# Altium schematic symbol library WR-TBL_Spring Clamp.SchLib: 367 symbols (part 3 of 6)
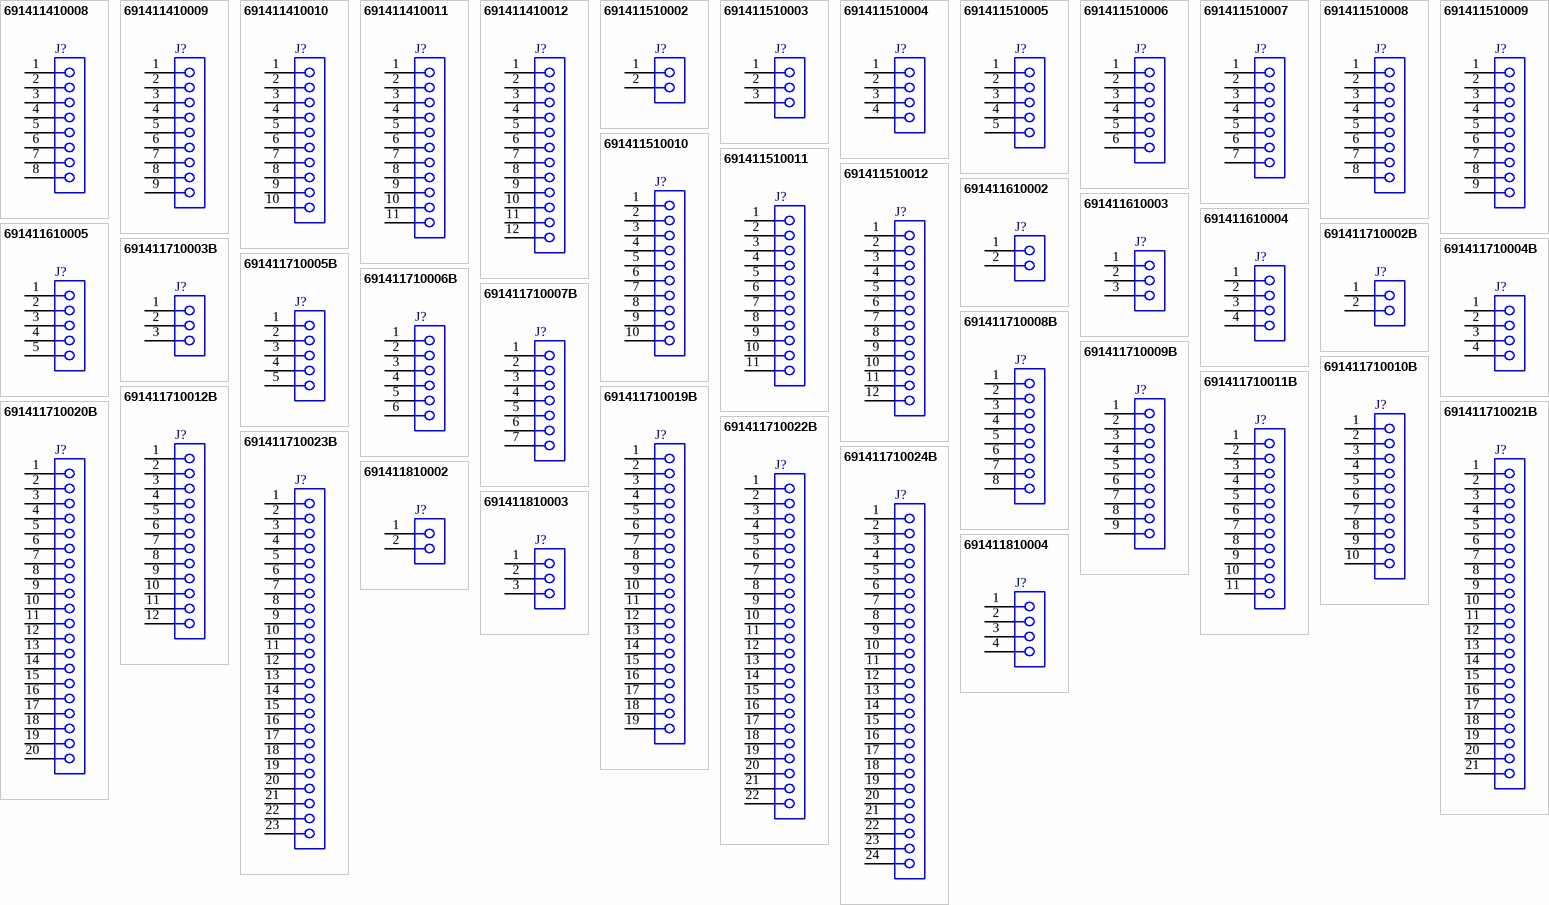
[diagram p11: symbols 691411410008 to 691411810004]

## 691411410010
designator J?  (value not drawn)
WR-TBL Series 4114 Horizontal Cable Entry, THT, pitch 7.62mm, 10p; Manufacturer: Wurth Elektronik; Modularity: No; Rated Current: 10A; Wire Section: 16 to 30 (AWG) 0.5 to 1.5 (mm^2); Working Voltage: 300V (AC); Manufacturer Part Number: 691411410010; Product Series: WR-TBL; ComponentLink1Description: Website Link; ComponentLink1URL: https://www.we-online.com; ComponentLink2Description: Datasheet Link; ComponentLink2URL: https://www.we-online.com/components/products/datasheet/691411410010; Mount: Through Hole; Operating Temperature Min: -30degC; Operating Temperature Max: 120degC; Packaging: Box; Application: Screwless; Number of Pins: 10; Number of Rows: 1; Orientation: Horizontal; Lead Pitch: 7.62mm
footprint 691411410010
pins: 1, 2, 3, 4, 5, 6, 7, 8, 9, 10

## 691411410011
designator J?  (value not drawn)
WR-TBL Series 4114 Horizontal Cable Entry, THT, pitch 7.62mm, 11p; Manufacturer: Wurth Elektronik; Modularity: No; Rated Current: 10A; Wire Section: 16 to 30 (AWG) 0.5 to 1.5 (mm^2); Working Voltage: 300V (AC); Manufacturer Part Number: 691411410011; Product Series: WR-TBL; ComponentLink1Description: Website Link; ComponentLink1URL: https://www.we-online.com; ComponentLink2Description: Datasheet Link; ComponentLink2URL: https://www.we-online.com/components/products/datasheet/691411410011; Mount: Through Hole; Operating Temperature Min: -30degC; Operating Temperature Max: 120degC; Packaging: Box; Application: Screwless; Number of Pins: 11; Number of Rows: 1; Orientation: Horizontal; Lead Pitch: 7.62mm
footprint 691411410011
pins: 1, 2, 3, 4, 5, 6, 7, 8, 9, 10, 11

## 691411410012
designator J?  (value not drawn)
WR-TBL Series 4114 Horizontal Cable Entry, THT, pitch 7.62mm, 12p; Manufacturer: Wurth Elektronik; Modularity: No; Rated Current: 10A; Wire Section: 16 to 30 (AWG) 0.5 to 1.5 (mm^2); Working Voltage: 300V (AC); Manufacturer Part Number: 691411410012; Product Series: WR-TBL; ComponentLink1Description: Website Link; ComponentLink1URL: https://www.we-online.com; ComponentLink2Description: Datasheet Link; ComponentLink2URL: https://www.we-online.com/components/products/datasheet/691411410012; Mount: Through Hole; Operating Temperature Min: -30degC; Operating Temperature Max: 120degC; Packaging: Box; Application: Screwless; Number of Pins: 12; Number of Rows: 1; Orientation: Horizontal; Lead Pitch: 7.62mm
footprint 691411410012
pins: 1, 2, 3, 4, 5, 6, 7, 8, 9, 10, 11, 12

## 691411510002
designator J?  (value not drawn)
WR-TBL Series 4115 Horizontal Entry, THT, pitch 5.08mm, 02p; Manufacturer: Wurth Elektronik; Modularity: No; Rated Current: 10A; Wire Section: 16 to 30 (AWG) 0.5 to 1.5 (mm^2); Working Voltage: 300V (AC); Manufacturer Part Number: 691411510002; Product Series: WR-TBL; ComponentLink1Description: Website Link; ComponentLink1URL: https://www.we-online.com; ComponentLink2Description: Datasheet Link; ComponentLink2URL: https://www.we-online.com/components/products/datasheet/691411510002; Mount: Through Hole; Operating Temperature Min: -30degC; Operating Temperature Max: 120degC; Packaging: Box; Application: Screwless; Number of Pins: 2; Number of Rows: 1; Orientation: Horizontal; Lead Pitch: 5.08mm
footprint 691411510002
pins: 1, 2

## 691411510003
designator J?  (value not drawn)
WR-TBL Series 4115 Horizontal Entry, THT, pitch 5.08mm, 03p; Manufacturer: Wurth Elektronik; Modularity: No; Rated Current: 10A; Wire Section: 16 to 30 (AWG) 0.5 to 1.5 (mm^2); Working Voltage: 300V (AC); Manufacturer Part Number: 691411510003; Product Series: WR-TBL; ComponentLink1Description: Website Link; ComponentLink1URL: https://www.we-online.com; ComponentLink2Description: Datasheet Link; ComponentLink2URL: https://www.we-online.com/components/products/datasheet/691411510003; Mount: Through Hole; Operating Temperature Min: -30degC; Operating Temperature Max: 120degC; Packaging: Box; Application: Screwless; Number of Pins: 3; Number of Rows: 1; Orientation: Horizontal; Lead Pitch: 5.08mm
footprint 691411510003
pins: 1, 2, 3

## 691411510004
designator J?  (value not drawn)
WR-TBL Series 4115 Horizontal Entry, THT, pitch 5.08mm, 04p; Manufacturer: Wurth Elektronik; Modularity: No; Rated Current: 10A; Wire Section: 16 to 30 (AWG) 0.5 to 1.5 (mm^2); Working Voltage: 300V (AC); Manufacturer Part Number: 691411510004; Product Series: WR-TBL; ComponentLink1Description: Website Link; ComponentLink1URL: https://www.we-online.com; ComponentLink2Description: Datasheet Link; ComponentLink2URL: https://www.we-online.com/components/products/datasheet/691411510004; Mount: Through Hole; Operating Temperature Min: -30degC; Operating Temperature Max: 120degC; Packaging: Box; Application: Screwless; Number of Pins: 4; Number of Rows: 1; Orientation: Horizontal; Lead Pitch: 5.08mm
footprint 691411510004
pins: 1, 2, 3, 4

## 691411510005
designator J?  (value not drawn)
WR-TBL Series 4115 Horizontal Entry, THT, pitch 5.08mm, 05p; Manufacturer: Wurth Elektronik; Modularity: No; Rated Current: 10A; Wire Section: 16 to 30 (AWG) 0.5 to 1.5 (mm^2); Working Voltage: 300V (AC); Manufacturer Part Number: 691411510005; Product Series: WR-TBL; ComponentLink1Description: Website Link; ComponentLink1URL: https://www.we-online.com; ComponentLink2Description: Datasheet Link; ComponentLink2URL: https://www.we-online.com/components/products/datasheet/691411510005; Mount: Through Hole; Operating Temperature Min: -30degC; Operating Temperature Max: 120degC; Packaging: Box; Application: Screwless; Number of Pins: 5; Number of Rows: 1; Orientation: Horizontal; Lead Pitch: 5.08mm
footprint 691411510005
pins: 1, 2, 3, 4, 5

## 691411510006
designator J?  (value not drawn)
WR-TBL Series 4115 Horizontal Entry, THT, pitch 5.08mm, 06p; Manufacturer: Wurth Elektronik; Modularity: No; Rated Current: 10A; Wire Section: 16 to 30 (AWG) 0.5 to 1.5 (mm^2); Working Voltage: 300V (AC); Manufacturer Part Number: 691411510006; Product Series: WR-TBL; ComponentLink1Description: Website Link; ComponentLink1URL: https://www.we-online.com; ComponentLink2Description: Datasheet Link; ComponentLink2URL: https://www.we-online.com/components/products/datasheet/691411510006; Mount: Through Hole; Operating Temperature Min: -30degC; Operating Temperature Max: 120degC; Packaging: Box; Application: Screwless; Number of Pins: 6; Number of Rows: 1; Orientation: Horizontal; Lead Pitch: 5.08mm
footprint 691411510006
pins: 1, 2, 3, 4, 5, 6

## 691411510007
designator J?  (value not drawn)
WR-TBL Series 4115 Horizontal Entry, THT, pitch 5.08mm, 07p; Manufacturer: Wurth Elektronik; Modularity: No; Rated Current: 10A; Wire Section: 16 to 30 (AWG) 0.5 to 1.5 (mm^2); Working Voltage: 300V (AC); Manufacturer Part Number: 691411510007; Product Series: WR-TBL; ComponentLink1Description: Website Link; ComponentLink1URL: https://www.we-online.com; ComponentLink2Description: Datasheet Link; ComponentLink2URL: https://www.we-online.com/components/products/datasheet/691411510007; Mount: Through Hole; Operating Temperature Min: -30degC; Operating Temperature Max: 120degC; Packaging: Box; Application: Screwless; Number of Pins: 7; Number of Rows: 1; Orientation: Horizontal; Lead Pitch: 5.08mm
footprint 691411510007
pins: 1, 2, 3, 4, 5, 6, 7

## 691411510008
designator J?  (value not drawn)
WR-TBL Series 4115 Horizontal Entry, THT, pitch 5.08mm, 08p; Manufacturer: Wurth Elektronik; Modularity: No; Rated Current: 10A; Wire Section: 16 to 30 (AWG) 0.5 to 1.5 (mm^2); Working Voltage: 300V (AC); Manufacturer Part Number: 691411510008; Product Series: WR-TBL; ComponentLink1Description: Website Link; ComponentLink1URL: https://www.we-online.com; ComponentLink2Description: Datasheet Link; ComponentLink2URL: https://www.we-online.com/components/products/datasheet/691411510008; Mount: Through Hole; Operating Temperature Min: -30degC; Operating Temperature Max: 120degC; Packaging: Box; Application: Screwless; Number of Pins: 8; Number of Rows: 1; Orientation: Horizontal; Lead Pitch: 5.08mm
footprint 691411510008
pins: 1, 2, 3, 4, 5, 6, 7, 8

## 691411510009
designator J?  (value not drawn)
WR-TBL Series 4115 Horizontal Entry, THT, pitch 5.08mm, 09p; Manufacturer: Wurth Elektronik; Modularity: No; Rated Current: 10A; Wire Section: 16 to 30 (AWG) 0.5 to 1.5 (mm^2); Working Voltage: 300V (AC); Manufacturer Part Number: 691411510009; Product Series: WR-TBL; ComponentLink1Description: Website Link; ComponentLink1URL: https://www.we-online.com; ComponentLink2Description: Datasheet Link; ComponentLink2URL: https://www.we-online.com/components/products/datasheet/691411510009; Mount: Through Hole; Operating Temperature Min: -30degC; Operating Temperature Max: 120degC; Packaging: Box; Application: Screwless; Number of Pins: 9; Number of Rows: 1; Orientation: Horizontal; Lead Pitch: 5.08mm
footprint 691411510009
pins: 1, 2, 3, 4, 5, 6, 7, 8, 9

## 691411510010
designator J?  (value not drawn)
WR-TBL Series 4115 Horizontal Entry, THT, pitch 5.08mm, 10p; Manufacturer: Wurth Elektronik; Modularity: No; Rated Current: 10A; Wire Section: 16 to 30 (AWG) 0.5 to 1.5 (mm^2); Working Voltage: 300V (AC); Manufacturer Part Number: 691411510010; Product Series: WR-TBL; ComponentLink1Description: Website Link; ComponentLink1URL: https://www.we-online.com; ComponentLink2Description: Datasheet Link; ComponentLink2URL: https://www.we-online.com/components/products/datasheet/691411510010; Mount: Through Hole; Operating Temperature Min: -30degC; Operating Temperature Max: 120degC; Packaging: Box; Application: Screwless; Number of Pins: 10; Number of Rows: 1; Orientation: Horizontal; Lead Pitch: 5.08mm
footprint 691411510010
pins: 1, 2, 3, 4, 5, 6, 7, 8, 9, 10

## 691411510011
designator J?  (value not drawn)
WR-TBL Series 4115 Horizontal Entry, THT, pitch 5.08mm, 11p; Manufacturer: Wurth Elektronik; Modularity: No; Rated Current: 10A; Wire Section: 16 to 30 (AWG) 0.5 to 1.5 (mm^2); Working Voltage: 300V (AC); Manufacturer Part Number: 691411510011; Product Series: WR-TBL; ComponentLink1Description: Website Link; ComponentLink1URL: https://www.we-online.com; ComponentLink2Description: Datasheet Link; ComponentLink2URL: https://www.we-online.com/components/products/datasheet/691411510011; Mount: Through Hole; Operating Temperature Min: -30degC; Operating Temperature Max: 120degC; Packaging: Box; Application: Screwless; Number of Pins: 11; Number of Rows: 1; Orientation: Horizontal; Lead Pitch: 5.08mm
footprint 691411510011
pins: 1, 2, 3, 4, 5, 6, 7, 8, 9, 10, 11

## 691411510012
designator J?  (value not drawn)
WR-TBL Series 4115 Horizontal Entry, THT, pitch 5.08mm, 12p; Manufacturer: Wurth Elektronik; Modularity: No; Rated Current: 10A; Wire Section: 16 to 30 (AWG) 0.5 to 1.5 (mm^2); Working Voltage: 300V (AC); Manufacturer Part Number: 691411510012; Product Series: WR-TBL; ComponentLink1Description: Website Link; ComponentLink1URL: https://www.we-online.com; ComponentLink2Description: Datasheet Link; ComponentLink2URL: https://www.we-online.com/components/products/datasheet/691411510012; Mount: Through Hole; Operating Temperature Min: -30degC; Operating Temperature Max: 120degC; Packaging: Box; Application: Screwless; Number of Pins: 12; Number of Rows: 1; Orientation: Horizontal; Lead Pitch: 5.08mm
footprint 691411510012
pins: 1, 2, 3, 4, 5, 6, 7, 8, 9, 10, 11, 12

## 691411610002
designator J?  (value not drawn)
WR-TBL Series 4116 Horizontal Entry, THT, pitch 10.16mm, 02p; Manufacturer: Wurth Elektronik; Modularity: No; Rated Current: 10A; Wire Section: 16 to 30 (AWG) 0.5 to 1.5 (mm^2); Working Voltage: 300V (AC); Manufacturer Part Number: 691411610002; Product Series: WR-TBL; ComponentLink1Description: Website Link; ComponentLink1URL: https://www.we-online.com; ComponentLink2Description: Datasheet Link; ComponentLink2URL: https://www.we-online.com/components/products/datasheet/691411610002; Mount: Through Hole; Operating Temperature Min: -30degC; Operating Temperature Max: 120degC; Packaging: Box; Application: Screwless; Number of Pins: 2; Number of Rows: 1; Orientation: Horizontal; Lead Pitch: 10.16mm
footprint 691411610002
pins: 1, 2

## 691411610003
designator J?  (value not drawn)
WR-TBL Series 4116 Horizontal Entry, THT, pitch 10.16mm, 03p; Manufacturer: Wurth Elektronik; Modularity: No; Rated Current: 10A; Wire Section: 16 to 30 (AWG) 0.5 to 1.5 (mm^2); Working Voltage: 300V (AC); Manufacturer Part Number: 691411610003; Product Series: WR-TBL; ComponentLink1Description: Website Link; ComponentLink1URL: https://www.we-online.com; ComponentLink2Description: Datasheet Link; ComponentLink2URL: https://www.we-online.com/components/products/datasheet/691411610003; Mount: Through Hole; Operating Temperature Min: -30degC; Operating Temperature Max: 120degC; Packaging: Box; Application: Screwless; Number of Pins: 3; Number of Rows: 1; Orientation: Horizontal; Lead Pitch: 10.16mm
footprint 691411610003
pins: 1, 2, 3

## 691411610004
designator J?  (value not drawn)
WR-TBL Series 4116 Horizontal Entry, THT, pitch 10.16mm, 04p; Manufacturer: Wurth Elektronik; Modularity: No; Rated Current: 10A; Wire Section: 16 to 30 (AWG) 0.5 to 1.5 (mm^2); Working Voltage: 300V (AC); Manufacturer Part Number: 691411610004; Product Series: WR-TBL; ComponentLink1Description: Website Link; ComponentLink1URL: https://www.we-online.com; ComponentLink2Description: Datasheet Link; ComponentLink2URL: https://www.we-online.com/components/products/datasheet/691411610004; Mount: Through Hole; Operating Temperature Min: -30degC; Operating Temperature Max: 120degC; Packaging: Box; Application: Screwless; Number of Pins: 4; Number of Rows: 1; Orientation: Horizontal; Lead Pitch: 10.16mm
footprint 691411610004
pins: 1, 2, 3, 4

## 691411610005
designator J?  (value not drawn)
WR-TBL Series 4116 Horizontal Entry, THT, pitch 10.16mm, 05p; Manufacturer: Wurth Elektronik; Modularity: No; Rated Current: 10A; Wire Section: 16 to 30 (AWG) 0.5 to 1.5 (mm^2); Working Voltage: 300V (AC); Manufacturer Part Number: 691411610005; Product Series: WR-TBL; ComponentLink1Description: Website Link; ComponentLink1URL: https://www.we-online.com; ComponentLink2Description: Datasheet Link; ComponentLink2URL: https://www.we-online.com/components/products/datasheet/691411610005; Mount: Through Hole; Operating Temperature Min: -30degC; Operating Temperature Max: 120degC; Packaging: Box; Application: Screwless; Number of Pins: 5; Number of Rows: 1; Orientation: Horizontal; Lead Pitch: 10.16mm
footprint 691411610005
pins: 1, 2, 3, 4, 5

## 691411710002B
designator J?  (value not drawn)
WR-TBL Series 411B Horizontal Entry, THT, pitch 5mm, 02p; Manufacturer: Wurth Elektronik; Modularity: No; Rated Current: 10A; Wire Section: 14 to 20 (AWG) 2.08 to 0.518 (mm^2); Working Voltage: 300V (AC); Manufacturer Part Number: 691411710002B; Product Series: WR-TBL; ComponentLink1Description: Website Link; ComponentLink1URL: https://www.we-online.com; ComponentLink2Description: Datasheet Link; ComponentLink2URL: https://www.we-online.com/components/products/datasheet/691411710002B; Mount: Through Hole; Operating Temperature Min: -40degC; Operating Temperature Max: 105degC; Packaging: Box; Application: Screwless; Number of Pins: 2; Number of Rows: 1; Orientation: Horizontal; Lead Pitch: 5mm
footprint 691411710002B
pins: 1, 2

## 691411710003B
designator J?  (value not drawn)
WR-TBL Series 411B Horizontal Entry, THT, pitch 5mm, 03p; Manufacturer: Wurth Elektronik; Modularity: No; Rated Current: 10A; Wire Section: 14 to 20 (AWG) 2.08 to 0.518 (mm^2); Working Voltage: 300V (AC); Manufacturer Part Number: 691411710003B; Product Series: WR-TBL; ComponentLink1Description: Website Link; ComponentLink1URL: https://www.we-online.com; ComponentLink2Description: Datasheet Link; ComponentLink2URL: https://www.we-online.com/components/products/datasheet/691411710003B; Mount: Through Hole; Operating Temperature Min: -40degC; Operating Temperature Max: 105degC; Packaging: Box; Application: Screwless; Number of Pins: 3; Number of Rows: 1; Orientation: Horizontal; Lead Pitch: 5mm
footprint 691411710003B
pins: 1, 2, 3

## 691411710004B
designator J?  (value not drawn)
WR-TBL Series 411B Horizontal Entry, THT, pitch 5mm, 04p; Manufacturer: Wurth Elektronik; Modularity: No; Rated Current: 10A; Wire Section: 14 to 20 (AWG) 2.08 to 0.518 (mm^2); Working Voltage: 300V (AC); Manufacturer Part Number: 691411710004B; Product Series: WR-TBL; ComponentLink1Description: Website Link; ComponentLink1URL: https://www.we-online.com; ComponentLink2Description: Datasheet Link; ComponentLink2URL: https://www.we-online.com/components/products/datasheet/691411710004B; Mount: Through Hole; Operating Temperature Min: -40degC; Operating Temperature Max: 105degC; Packaging: Box; Application: Screwless; Number of Pins: 4; Number of Rows: 1; Orientation: Horizontal; Lead Pitch: 5mm
footprint 691411710004B
pins: 1, 2, 3, 4

## 691411710005B
designator J?  (value not drawn)
WR-TBL Series 411B Horizontal Entry, THT, pitch 5mm, 05p; Manufacturer: Wurth Elektronik; Modularity: No; Rated Current: 10A; Wire Section: 14 to 20 (AWG) 2.08 to 0.518 (mm^2); Working Voltage: 300V (AC); Manufacturer Part Number: 691411710005B; Product Series: WR-TBL; ComponentLink1Description: Website Link; ComponentLink1URL: https://www.we-online.com; ComponentLink2Description: Datasheet Link; ComponentLink2URL: https://www.we-online.com/components/products/datasheet/691411710005B; Mount: Through Hole; Operating Temperature Min: -40degC; Operating Temperature Max: 105degC; Packaging: Box; Application: Screwless; Number of Pins: 5; Number of Rows: 1; Orientation: Horizontal; Lead Pitch: 5mm
footprint 691411710005B
pins: 1, 2, 3, 4, 5

## 691411710006B
designator J?  (value not drawn)
WR-TBL Series 411B Horizontal Entry, THT, pitch 5mm, 06p; Manufacturer: Wurth Elektronik; Modularity: No; Rated Current: 10A; Wire Section: 14 to 20 (AWG) 2.08 to 0.518 (mm^2); Working Voltage: 300V (AC); Manufacturer Part Number: 691411710006B; Product Series: WR-TBL; ComponentLink1Description: Website Link; ComponentLink1URL: https://www.we-online.com; ComponentLink2Description: Datasheet Link; ComponentLink2URL: https://www.we-online.com/components/products/datasheet/691411710006B; Mount: Through Hole; Operating Temperature Min: -40degC; Operating Temperature Max: 105degC; Packaging: Box; Application: Screwless; Number of Pins: 6; Number of Rows: 1; Orientation: Horizontal; Lead Pitch: 5mm
footprint 691411710006B
pins: 1, 2, 3, 4, 5, 6

## 691411710007B
designator J?  (value not drawn)
WR-TBL Series 411B Horizontal Entry, THT, pitch 5mm, 07p; Manufacturer: Wurth Elektronik; Modularity: No; Rated Current: 10A; Wire Section: 14 to 20 (AWG) 2.08 to 0.518 (mm^2); Working Voltage: 300V (AC); Manufacturer Part Number: 691411710007B; Product Series: WR-TBL; ComponentLink1Description: Website Link; ComponentLink1URL: https://www.we-online.com; ComponentLink2Description: Datasheet Link; ComponentLink2URL: https://www.we-online.com/components/products/datasheet/691411710007B; Mount: Through Hole; Operating Temperature Min: -40degC; Operating Temperature Max: 105degC; Packaging: Box; Application: Screwless; Number of Pins: 7; Number of Rows: 1; Orientation: Horizontal; Lead Pitch: 5mm
footprint 691411710007B
pins: 1, 2, 3, 4, 5, 6, 7

## 691411710008B
designator J?  (value not drawn)
WR-TBL Series 411B Horizontal Entry, THT, pitch 5mm, 08p; Manufacturer: Wurth Elektronik; Modularity: No; Rated Current: 10A; Wire Section: 14 to 20 (AWG) 2.08 to 0.518 (mm^2); Working Voltage: 300V (AC); Manufacturer Part Number: 691411710008B; Product Series: WR-TBL; ComponentLink1Description: Website Link; ComponentLink1URL: https://www.we-online.com; ComponentLink2Description: Datasheet Link; ComponentLink2URL: https://www.we-online.com/components/products/datasheet/691411710008B; Mount: Through Hole; Operating Temperature Min: -40degC; Operating Temperature Max: 105degC; Packaging: Box; Application: Screwless; Number of Pins: 8; Number of Rows: 1; Orientation: Horizontal; Lead Pitch: 5mm
footprint 691411710008B
pins: 1, 2, 3, 4, 5, 6, 7, 8

## 691411710009B
designator J?  (value not drawn)
WR-TBL Series 411B Horizontal Entry, THT, pitch 5mm, 09p; Manufacturer: Wurth Elektronik; Modularity: No; Rated Current: 10A; Working Voltage: 300V (AC); Manufacturer Part Number: 691411710009B; Product Series: WR-TBL; ComponentLink1Description: Website Link; ComponentLink1URL: https://www.we-online.com; ComponentLink2Description: Datasheet Link; ComponentLink2URL: https://www.we-online.com/components/products/datasheet/691411710009B; Mount: Through Hole; Operating Temperature Min: -40degC; Operating Temperature Max: 105degC; Packaging: Box; Application: Screwless; Number of Pins: 9; Number of Rows: 1; Orientation: Horizontal; Lead Pitch: 5mm
footprint 691411710009B
pins: 1, 2, 3, 4, 5, 6, 7, 8, 9

## 691411710010B
designator J?  (value not drawn)
WR-TBL Series 411B Horizontal Entry, THT, pitch 5mm, 10p; Manufacturer: Wurth Elektronik; Modularity: No; Rated Current: 10A; Working Voltage: 300V (AC); Manufacturer Part Number: 691411710010B; Product Series: WR-TBL; ComponentLink1Description: Website Link; ComponentLink1URL: https://www.we-online.com; ComponentLink2Description: Datasheet Link; ComponentLink2URL: https://www.we-online.com/components/products/datasheet/691411710010B; Mount: Through Hole; Operating Temperature Min: -40degC; Operating Temperature Max: 105degC; Packaging: Box; Application: Screwless; Number of Pins: 10; Number of Rows: 1; Orientation: Horizontal; Lead Pitch: 5mm
footprint 691411710010B
pins: 1, 2, 3, 4, 5, 6, 7, 8, 9, 10

## 691411710011B
designator J?  (value not drawn)
WR-TBL Series 411B Horizontal Entry, THT, pitch 5mm, 11p; Manufacturer: Wurth Elektronik; Modularity: No; Rated Current: 10A; Working Voltage: 300V (AC); Manufacturer Part Number: 691411710011B; Product Series: WR-TBL; ComponentLink1Description: Website Link; ComponentLink1URL: https://www.we-online.com; ComponentLink2Description: Datasheet Link; ComponentLink2URL: https://www.we-online.com/components/products/datasheet/691411710011B; Mount: Through Hole; Operating Temperature Min: -40degC; Operating Temperature Max: 105degC; Packaging: Box; Application: Screwless; Number of Pins: 11; Number of Rows: 1; Orientation: Horizontal; Lead Pitch: 5mm
footprint 691411710011B
pins: 1, 2, 3, 4, 5, 6, 7, 8, 9, 10, 11

## 691411710012B
designator J?  (value not drawn)
WR-TBL Series 411B Horizontal Entry, THT, pitch 5mm, 12p; Manufacturer: Wurth Elektronik; Modularity: No; Rated Current: 10A; Wire Section: 14 to 20 (AWG) 2.08 to 0.518 (mm^2); Working Voltage: 300V (AC); Manufacturer Part Number: 691411710012B; Product Series: WR-TBL; ComponentLink1Description: Website Link; ComponentLink1URL: https://www.we-online.com; ComponentLink2Description: Datasheet Link; ComponentLink2URL: https://www.we-online.com/components/products/datasheet/691411710012B; Mount: Through Hole; Operating Temperature Min: -40degC; Operating Temperature Max: 105degC; Packaging: Box; Application: Screwless; Number of Pins: 12; Number of Rows: 1; Orientation: Horizontal; Lead Pitch: 5mm
footprint 691411710012B
pins: 1, 2, 3, 4, 5, 6, 7, 8, 9, 10, 11, 12

## 691411710019B
designator J?  (value not drawn)
WR-TBL Series 411B Horizontal Entry, THT, pitch 5mm, 19p; Manufacturer: Wurth Elektronik; Modularity: No; Rated Current: 10A; Working Voltage: 300V (AC); Manufacturer Part Number: 691411710019B; Product Series: WR-TBL; ComponentLink1Description: Website Link; ComponentLink1URL: https://www.we-online.com; ComponentLink2Description: Datasheet Link; ComponentLink2URL: https://www.we-online.com/components/products/datasheet/691411710019B; Mount: Through Hole; Operating Temperature Min: -40degC; Operating Temperature Max: 105degC; Packaging: Box; Application: Screwless; Number of Pins: 19; Number of Rows: 1; Orientation: Horizontal; Lead Pitch: 5mm
footprint 691411710019B
pins: 1, 2, 3, 4, 5, 6, 7, 8, 9, 10, 11, 12, 13, 14, 15, 16, 17, 18, 19

## 691411710020B
designator J?  (value not drawn)
WR-TBL Series 411B Horizontal Entry, THT, pitch 5mm, 20p; Manufacturer: Wurth Elektronik; Modularity: No; Rated Current: 10A; Working Voltage: 300V (AC); Manufacturer Part Number: 691411710020B; Product Series: WR-TBL; ComponentLink1Description: Website Link; ComponentLink1URL: https://www.we-online.com; ComponentLink2Description: Datasheet Link; ComponentLink2URL: https://www.we-online.com/components/products/datasheet/691411710020B; Mount: Through Hole; Operating Temperature Min: -40degC; Operating Temperature Max: 105degC; Packaging: Box; Application: Screwless; Number of Pins: 20; Number of Rows: 1; Orientation: Horizontal; Lead Pitch: 5mm
footprint 691411710020B
pins: 1, 2, 3, 4, 5, 6, 7, 8, 9, 10, 11, 12, 13, 14, 15, 16, 17, 18, 19, 20

## 691411710021B
designator J?  (value not drawn)
WR-TBL Series 411B Horizontal Entry, THT, pitch 5mm, 21p; Manufacturer: Wurth Elektronik; Modularity: No; Rated Current: 10A; Working Voltage: 300V (AC); Manufacturer Part Number: 691411710021B; Product Series: WR-TBL; ComponentLink1Description: Website Link; ComponentLink1URL: https://www.we-online.com; ComponentLink2Description: Datasheet Link; ComponentLink2URL: https://www.we-online.com/components/products/datasheet/691411710021B; Mount: Through Hole; Operating Temperature Min: -40degC; Operating Temperature Max: 105degC; Packaging: Box; Application: Screwless; Number of Pins: 21; Number of Rows: 1; Orientation: Horizontal; Lead Pitch: 5mm
footprint 691411710021B
pins: 1, 2, 3, 4, 5, 6, 7, 8, 9, 10, 11, 12, 13, 14, 15, 16, 17, 18, 19, 20, 21

## 691411710022B
designator J?  (value not drawn)
WR-TBL Series 411B Horizontal Entry, THT, pitch 5mm, 22p; Manufacturer: Wurth Elektronik; Modularity: No; Rated Current: 10A; Working Voltage: 300V (AC); Manufacturer Part Number: 691411710022B; Product Series: WR-TBL; ComponentLink1Description: Website Link; ComponentLink1URL: https://www.we-online.com; ComponentLink2Description: Datasheet Link; ComponentLink2URL: https://www.we-online.com/components/products/datasheet/691411710022B; Mount: Through Hole; Operating Temperature Min: -40degC; Operating Temperature Max: 105degC; Packaging: Box; Application: Screwless; Number of Pins: 22; Number of Rows: 1; Orientation: Horizontal; Lead Pitch: 5mm
footprint 691411710022B
pins: 1, 2, 3, 4, 5, 6, 7, 8, 9, 10, 11, 12, 13, 14, 15, 16, 17, 18, 19, 20, 21, 22

## 691411710023B
designator J?  (value not drawn)
WR-TBL Series 411B Horizontal Entry, THT, pitch 5mm, 23p; Manufacturer: Wurth Elektronik; Modularity: No; Rated Current: 10A; Working Voltage: 300V (AC); Manufacturer Part Number: 691411710023B; Product Series: WR-TBL; ComponentLink1Description: Website Link; ComponentLink1URL: https://www.we-online.com; ComponentLink2Description: Datasheet Link; ComponentLink2URL: https://www.we-online.com/components/products/datasheet/691411710023B; Mount: Through Hole; Operating Temperature Min: -40degC; Operating Temperature Max: 105degC; Packaging: Box; Application: Screwless; Number of Pins: 23; Number of Rows: 1; Orientation: Horizontal; Lead Pitch: 5mm
footprint 691411710023B
pins: 1, 2, 3, 4, 5, 6, 7, 8, 9, 10, 11, 12, 13, 14, 15, 16, 17, 18, 19, 20, 21, 22, 23

## 691411710024B
designator J?  (value not drawn)
WR-TBL Series 411B Horizontal Entry, THT, pitch 5mm, 24p; Manufacturer: Wurth Elektronik; Modularity: No; Rated Current: 10A; Working Voltage: 300V (AC); Manufacturer Part Number: 691411710024B; Product Series: WR-TBL; ComponentLink1Description: Website Link; ComponentLink1URL: https://www.we-online.com; ComponentLink2Description: Datasheet Link; ComponentLink2URL: https://www.we-online.com/components/products/datasheet/691411710024B; Mount: Through Hole; Operating Temperature Min: -40degC; Operating Temperature Max: 105degC; Packaging: Box; Application: Screwless; Number of Pins: 24; Number of Rows: 1; Orientation: Horizontal; Lead Pitch: 5mm
footprint 691411710024B
pins: 1, 2, 3, 4, 5, 6, 7, 8, 9, 10, 11, 12, 13, 14, 15, 16, 17, 18, 19, 20, 21, 22, 23, 24

## 691411810002
designator J?  (value not drawn)
WR-TBL Series 4118 Horizontal Entry, THT, pitch 10mm, 02p; Manufacturer: Wurth Elektronik; Modularity: No; Rated Current: 10A; Wire Section: 16 to 30 (AWG) 0.5 to 1.5 (mm^2); Working Voltage: 300V (AC); Manufacturer Part Number: 691411810002; Product Series: WR-TBL; ComponentLink1Description: Website Link; ComponentLink1URL: https://www.we-online.com; ComponentLink2Description: Datasheet Link; ComponentLink2URL: https://www.we-online.com/components/products/datasheet/691411810002; Mount: Through Hole; Operating Temperature Min: -30degC; Operating Temperature Max: 120degC; Packaging: Box; Application: Screwless; Number of Pins: 2; Number of Rows: 1; Orientation: Horizontal; Lead Pitch: 10mm
footprint 691411810002
pins: 1, 2

## 691411810003
designator J?  (value not drawn)
WR-TBL Series 4118 Horizontal Entry, THT, pitch 10mm, 03p; Manufacturer: Wurth Elektronik; Modularity: No; Rated Current: 10A; Wire Section: 16 to 30 (AWG) 0.5 to 1.5 (mm^2); Working Voltage: 300V (AC); Manufacturer Part Number: 691411810003; Product Series: WR-TBL; ComponentLink1Description: Website Link; ComponentLink1URL: https://www.we-online.com; ComponentLink2Description: Datasheet Link; ComponentLink2URL: https://www.we-online.com/components/products/datasheet/691411810003; Mount: Through Hole; Operating Temperature Min: -30degC; Operating Temperature Max: 120degC; Packaging: Box; Application: Screwless; Number of Pins: 3; Number of Rows: 1; Orientation: Horizontal; Lead Pitch: 10mm
footprint 691411810003
pins: 1, 2, 3

## 691411810004
designator J?  (value not drawn)
WR-TBL Series 4118 Horizontal Entry, THT, pitch 10mm, 04p; Manufacturer: Wurth Elektronik; Modularity: No; Rated Current: 10A; Wire Section: 16 to 30 (AWG) 0.5 to 1.5 (mm^2); Working Voltage: 300V (AC); Manufacturer Part Number: 691411810004; Product Series: WR-TBL; ComponentLink1Description: Website Link; ComponentLink1URL: https://www.we-online.com; ComponentLink2Description: Datasheet Link; ComponentLink2URL: https://www.we-online.com/components/products/datasheet/691411810004; Mount: Through Hole; Operating Temperature Min: -30degC; Operating Temperature Max: 120degC; Packaging: Box; Application: Screwless; Number of Pins: 4; Number of Rows: 1; Orientation: Horizontal; Lead Pitch: 10mm
footprint 691411810004
pins: 1, 2, 3, 4

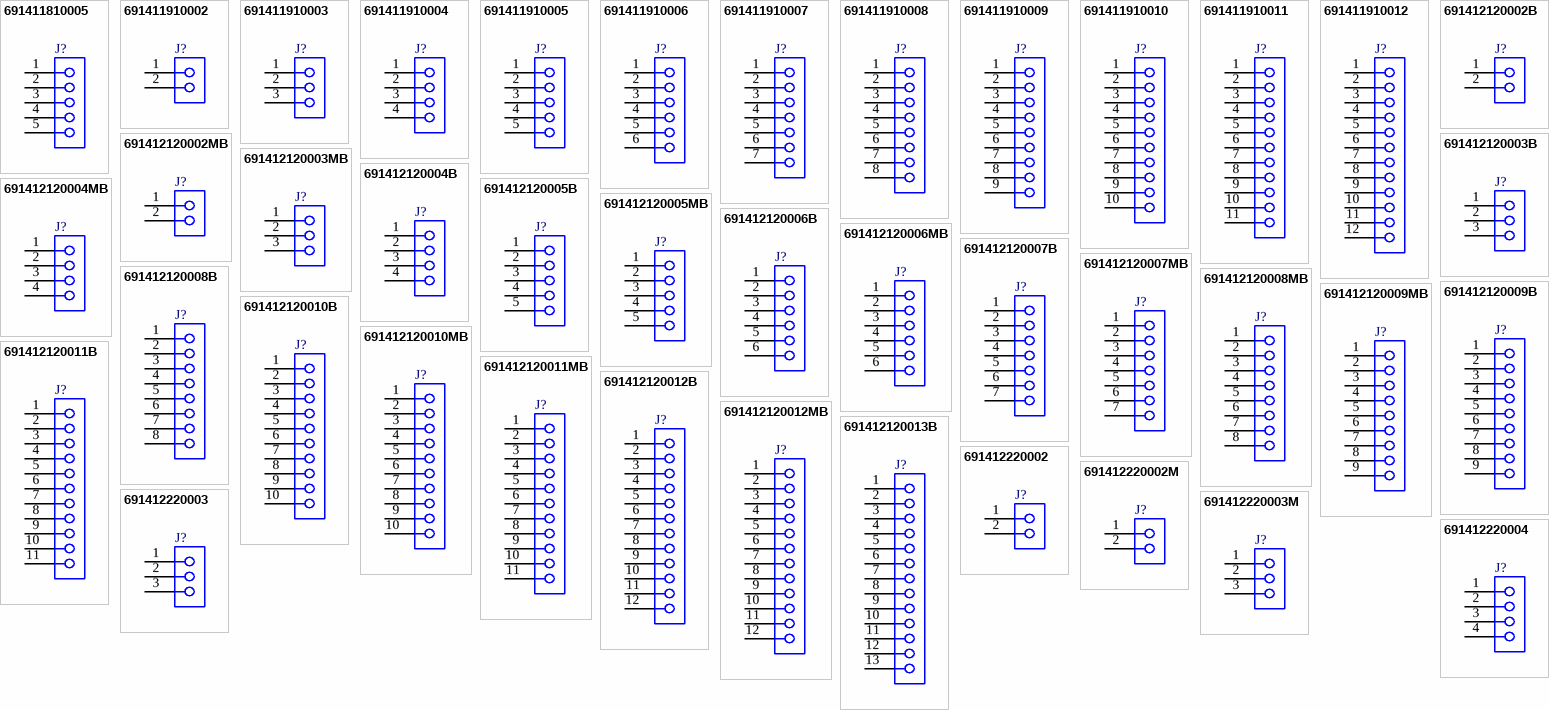
[diagram p4: symbols 691411810005 to 691412220004]

## 691411810005
designator J?  (value not drawn)
WR-TBL Series 4118 Horizontal Entry, THT, pitch 10mm, 05p; Manufacturer: Wurth Elektronik; Modularity: No; Rated Current: 10A; Wire Section: 16 to 30 (AWG) 0.5 to 1.5 (mm^2); Working Voltage: 300V (AC); Manufacturer Part Number: 691411810005; Product Series: WR-TBL; ComponentLink1Description: Website Link; ComponentLink1URL: https://www.we-online.com; ComponentLink2Description: Datasheet Link; ComponentLink2URL: https://www.we-online.com/components/products/datasheet/691411810005; Mount: Through Hole; Operating Temperature Min: -30degC; Operating Temperature Max: 120degC; Packaging: Box; Application: Screwless; Number of Pins: 5; Number of Rows: 1; Orientation: Horizontal; Lead Pitch: 10mm
footprint 691411810005
pins: 1, 2, 3, 4, 5

## 691411910002
designator J?  (value not drawn)
WR-TBL Series 4119 Horizontal Entry, THT, pitch 7.5mm, 02p; Manufacturer: Wurth Elektronik; Modularity: No; Rated Current: 10A; Wire Section: 16 to 30 (AWG) 0.5 to 1.5 (mm^2); Working Voltage: 300V (AC); Manufacturer Part Number: 691411910002; Product Series: WR-TBL; ComponentLink1Description: Website Link; ComponentLink1URL: https://www.we-online.com; ComponentLink2Description: Datasheet Link; ComponentLink2URL: https://www.we-online.com/components/products/datasheet/691411910002; Mount: Through Hole; Operating Temperature Min: -30degC; Operating Temperature Max: 120degC; Packaging: Box; Application: Screwless; Number of Pins: 2; Number of Rows: 1; Orientation: Horizontal; Lead Pitch: 7.5mm
footprint 691411910002
pins: 1, 2

## 691411910003
designator J?  (value not drawn)
WR-TBL Series 4119 Horizontal Entry, THT, pitch 7.5mm, 03p; Manufacturer: Wurth Elektronik; Modularity: No; Rated Current: 10A; Wire Section: 16 to 30 (AWG) 0.5 to 1.5 (mm^2); Working Voltage: 300V (AC); Manufacturer Part Number: 691411910003; Product Series: WR-TBL; ComponentLink1Description: Website Link; ComponentLink1URL: https://www.we-online.com; ComponentLink2Description: Datasheet Link; ComponentLink2URL: https://www.we-online.com/components/products/datasheet/691411910003; Mount: Through Hole; Operating Temperature Min: -30degC; Operating Temperature Max: 120degC; Packaging: Box; Application: Screwless; Number of Pins: 3; Number of Rows: 1; Orientation: Horizontal; Lead Pitch: 7.5mm
footprint 691411910003
pins: 1, 2, 3

## 691411910004
designator J?  (value not drawn)
WR-TBL Series 4119 Horizontal Entry, THT, pitch 7.5mm, 04p; Manufacturer: Wurth Elektronik; Modularity: No; Rated Current: 10A; Wire Section: 16 to 30 (AWG) 0.5 to 1.5 (mm^2); Working Voltage: 300V (AC); Manufacturer Part Number: 691411910004; Product Series: WR-TBL; ComponentLink1Description: Website Link; ComponentLink1URL: https://www.we-online.com; ComponentLink2Description: Datasheet Link; ComponentLink2URL: https://www.we-online.com/components/products/datasheet/691411910004; Mount: Through Hole; Operating Temperature Min: -30degC; Operating Temperature Max: 120degC; Packaging: Box; Application: Screwless; Number of Pins: 4; Number of Rows: 1; Orientation: Horizontal; Lead Pitch: 7.5mm
footprint 691411910004
pins: 1, 2, 3, 4

## 691411910005
designator J?  (value not drawn)
WR-TBL Series 4119 Horizontal Entry, THT, pitch 7.5mm, 05p; Manufacturer: Wurth Elektronik; Modularity: No; Rated Current: 10A; Wire Section: 16 to 30 (AWG) 0.5 to 1.5 (mm^2); Working Voltage: 300V (AC); Manufacturer Part Number: 691411910005; Product Series: WR-TBL; ComponentLink1Description: Website Link; ComponentLink1URL: https://www.we-online.com; ComponentLink2Description: Datasheet Link; ComponentLink2URL: https://www.we-online.com/components/products/datasheet/691411910005; Mount: Through Hole; Operating Temperature Min: -30degC; Operating Temperature Max: 120degC; Packaging: Box; Application: Screwless; Number of Pins: 5; Number of Rows: 1; Orientation: Horizontal; Lead Pitch: 7.5mm
footprint 691411910005
pins: 1, 2, 3, 4, 5

## 691411910006
designator J?  (value not drawn)
WR-TBL Series 4119 Horizontal Entry, THT, pitch 7.5mm, 06p; Manufacturer: Wurth Elektronik; Modularity: No; Rated Current: 10A; Wire Section: 16 to 30 (AWG) 0.5 to 1.5 (mm^2); Working Voltage: 300V (AC); Manufacturer Part Number: 691411910006; Product Series: WR-TBL; ComponentLink1Description: Website Link; ComponentLink1URL: https://www.we-online.com; ComponentLink2Description: Datasheet Link; ComponentLink2URL: https://www.we-online.com/components/products/datasheet/691411910006; Mount: Through Hole; Operating Temperature Min: -30degC; Operating Temperature Max: 120degC; Packaging: Box; Application: Screwless; Number of Pins: 6; Number of Rows: 1; Orientation: Horizontal; Lead Pitch: 7.5mm
footprint 691411910006
pins: 1, 2, 3, 4, 5, 6

## 691411910007
designator J?  (value not drawn)
WR-TBL Series 4119 Horizontal Entry, THT, pitch 7.5mm, 07p; Manufacturer: Wurth Elektronik; Modularity: No; Rated Current: 10A; Wire Section: 16 to 30 (AWG) 0.5 to 1.5 (mm^2); Working Voltage: 300V (AC); Manufacturer Part Number: 691411910007; Product Series: WR-TBL; ComponentLink1Description: Website Link; ComponentLink1URL: https://www.we-online.com; ComponentLink2Description: Datasheet Link; ComponentLink2URL: https://www.we-online.com/components/products/datasheet/691411910007; Mount: Through Hole; Operating Temperature Min: -30degC; Operating Temperature Max: 120degC; Packaging: Box; Application: Screwless; Number of Pins: 7; Number of Rows: 1; Orientation: Horizontal; Lead Pitch: 7.5mm
footprint 691411910007
pins: 1, 2, 3, 4, 5, 6, 7

## 691411910008
designator J?  (value not drawn)
WR-TBL Series 4119 Horizontal Entry, THT, pitch 7.5mm, 08p; Manufacturer: Wurth Elektronik; Modularity: No; Rated Current: 10A; Wire Section: 16 to 30 (AWG) 0.5 to 1.5 (mm^2); Working Voltage: 300V (AC); Manufacturer Part Number: 691411910008; Product Series: WR-TBL; ComponentLink1Description: Website Link; ComponentLink1URL: https://www.we-online.com; ComponentLink2Description: Datasheet Link; ComponentLink2URL: https://www.we-online.com/components/products/datasheet/691411910008; Mount: Through Hole; Operating Temperature Min: -30degC; Operating Temperature Max: 120degC; Packaging: Box; Application: Screwless; Number of Pins: 8; Number of Rows: 1; Orientation: Horizontal; Lead Pitch: 7.5mm
footprint 691411910008
pins: 1, 2, 3, 4, 5, 6, 7, 8

## 691411910009
designator J?  (value not drawn)
WR-TBL Series 4119 Horizontal Entry, THT, pitch 7.5mm, 09p; Manufacturer: Wurth Elektronik; Modularity: No; Rated Current: 10A; Wire Section: 16 to 30 (AWG) 0.5 to 1.5 (mm^2); Working Voltage: 300V (AC); Manufacturer Part Number: 691411910009; Product Series: WR-TBL; ComponentLink1Description: Website Link; ComponentLink1URL: https://www.we-online.com; ComponentLink2Description: Datasheet Link; ComponentLink2URL: https://www.we-online.com/components/products/datasheet/691411910009; Mount: Through Hole; Operating Temperature Min: -30degC; Operating Temperature Max: 120degC; Packaging: Box; Application: Screwless; Number of Pins: 9; Number of Rows: 1; Orientation: Horizontal; Lead Pitch: 7.5mm
footprint 691411910009
pins: 1, 2, 3, 4, 5, 6, 7, 8, 9

## 691411910010
designator J?  (value not drawn)
WR-TBL Series 4119 Horizontal Entry, THT, pitch 7.5mm, 10p; Manufacturer: Wurth Elektronik; Modularity: No; Rated Current: 10A; Wire Section: 16 to 30 (AWG) 0.5 to 1.5 (mm^2); Working Voltage: 300V (AC); Manufacturer Part Number: 691411910010; Product Series: WR-TBL; ComponentLink1Description: Website Link; ComponentLink1URL: https://www.we-online.com; ComponentLink2Description: Datasheet Link; ComponentLink2URL: https://www.we-online.com/components/products/datasheet/691411910010; Mount: Through Hole; Operating Temperature Min: -30degC; Operating Temperature Max: 120degC; Packaging: Box; Application: Screwless; Number of Pins: 10; Number of Rows: 1; Orientation: Horizontal; Lead Pitch: 7.5mm
footprint 691411910010
pins: 1, 2, 3, 4, 5, 6, 7, 8, 9, 10

## 691411910011
designator J?  (value not drawn)
WR-TBL Series 4119 Horizontal Entry, THT, pitch 7.5mm, 11p; Manufacturer: Wurth Elektronik; Modularity: No; Rated Current: 10A; Wire Section: 16 to 30 (AWG) 0.5 to 1.5 (mm^2); Working Voltage: 300V (AC); Manufacturer Part Number: 691411910011; Product Series: WR-TBL; ComponentLink1Description: Website Link; ComponentLink1URL: https://www.we-online.com; ComponentLink2Description: Datasheet Link; ComponentLink2URL: https://www.we-online.com/components/products/datasheet/691411910011; Mount: Through Hole; Operating Temperature Min: -30degC; Operating Temperature Max: 120degC; Packaging: Box; Application: Screwless; Number of Pins: 11; Number of Rows: 1; Orientation: Horizontal; Lead Pitch: 7.5mm
footprint 691411910011
pins: 1, 2, 3, 4, 5, 6, 7, 8, 9, 10, 11

## 691411910012
designator J?  (value not drawn)
WR-TBL Series 4119 Horizontal Entry, THT, pitch 7.5mm, 12p; Manufacturer: Wurth Elektronik; Modularity: No; Rated Current: 10A; Wire Section: 16 to 30 (AWG) 0.5 to 1.5 (mm^2); Working Voltage: 300V (AC); Manufacturer Part Number: 691411910012; Product Series: WR-TBL; ComponentLink1Description: Website Link; ComponentLink1URL: https://www.we-online.com; ComponentLink2Description: Datasheet Link; ComponentLink2URL: https://www.we-online.com/components/products/datasheet/691411910012; Mount: Through Hole; Operating Temperature Min: -30degC; Operating Temperature Max: 120degC; Packaging: Box; Application: Screwless; Number of Pins: 12; Number of Rows: 1; Orientation: Horizontal; Lead Pitch: 7.5mm
footprint 691411910012
pins: 1, 2, 3, 4, 5, 6, 7, 8, 9, 10, 11, 12

## 691412120002B
designator J?  (value not drawn)
WR-TBL Series 412B 45° Entry, THT, pitch 3.5mm, 02p; Manufacturer: Wurth Elektronik; Modularity: No; Rated Current: 6A; Wire Section: 14 to 20 (AWG) 2.08 to 0.518 (mm^2); Working Voltage: 300V (AC); Manufacturer Part Number: 691412120002B; Product Series: WR-TBL; ComponentLink1Description: Website Link; ComponentLink1URL: https://www.we-online.com; ComponentLink2Description: Datasheet Link; ComponentLink2URL: https://www.we-online.com/components/products/datasheet/691412120002B; Mount: Through Hole; Operating Temperature Min: -40degC; Operating Temperature Max: 105degC; Packaging: Box; Application: Screwless; Number of Pins: 2; Number of Rows: 1; Orientation: 45deg; Lead Pitch: 3.5mm
footprint 691412120002B
pins: 1, 2

## 691412120002MB
designator J?  (value not drawn)
WR-TBL Series 412MB 45° Entry, THT, pitch 3.5mm, 02p; Manufacturer: Wurth Elektronik; Modularity: No; Rated Current: 6A; Wire Section: 14 to 20 (AWG) 2.08 to 0.518 (mm^2); Working Voltage: 300V (AC); Manufacturer Part Number: 691412120002MB; Product Series: WR-TBL; ComponentLink1Description: Website Link; ComponentLink1URL: https://www.we-online.com; ComponentLink2Description: Datasheet Link; ComponentLink2URL: https://www.we-online.com/components/products/datasheet/691412120002MB; Mount: Through Hole; Operating Temperature Min: -40degC; Operating Temperature Max: 105degC; Packaging: Box; Application: Screwless; Number of Pins: 2; Number of Rows: 1; Orientation: 45deg; Lead Pitch: 3.5mm
footprint 691412120002MB
pins: 1, 2

## 691412120003B
designator J?  (value not drawn)
WR-TBL Series 412B 45° Entry, THT, pitch 3.5mm, 03p; Manufacturer: Wurth Elektronik; Modularity: No; Rated Current: 6A; Wire Section: 14 to 20 (AWG) 2.08 to 0.518 (mm^2); Working Voltage: 300V (AC); Manufacturer Part Number: 691412120003B; Product Series: WR-TBL; ComponentLink1Description: Website Link; ComponentLink1URL: https://www.we-online.com; ComponentLink2Description: Datasheet Link; ComponentLink2URL: https://www.we-online.com/components/products/datasheet/691412120003B; Mount: Through Hole; Operating Temperature Min: -40degC; Operating Temperature Max: 105degC; Packaging: Box; Application: Screwless; Number of Pins: 3; Number of Rows: 1; Orientation: 45deg; Lead Pitch: 3.5mm
footprint 691412120003B
pins: 1, 2, 3

## 691412120003MB
designator J?  (value not drawn)
WR-TBL Series 412MB 45° Entry, THT, pitch 3.5mm, 03p; Manufacturer: Wurth Elektronik; Modularity: No; Rated Current: 6A; Wire Section: 14 to 20 (AWG) 2.08 to 0.518 (mm^2); Working Voltage: 300V (AC); Manufacturer Part Number: 691412120003MB; Product Series: WR-TBL; ComponentLink1Description: Website Link; ComponentLink1URL: https://www.we-online.com; ComponentLink2Description: Datasheet Link; ComponentLink2URL: https://www.we-online.com/components/products/datasheet/691412120003MB; Mount: Through Hole; Operating Temperature Min: -40degC; Operating Temperature Max: 105degC; Packaging: Box; Application: Screwless; Number of Pins: 3; Number of Rows: 1; Orientation: 45deg; Lead Pitch: 3.5mm
footprint 691412120003MB
pins: 1, 2, 3

## 691412120004B
designator J?  (value not drawn)
WR-TBL Series 412B 45° Entry, THT, pitch 3.5mm, 04p; Manufacturer: Wurth Elektronik; Modularity: No; Rated Current: 6A; Wire Section: 14 to 20 (AWG) 2.08 to 0.518 (mm^2); Working Voltage: 300V (AC); Manufacturer Part Number: 691412120004B; Product Series: WR-TBL; ComponentLink1Description: Website Link; ComponentLink1URL: https://www.we-online.com; ComponentLink2Description: Datasheet Link; ComponentLink2URL: https://www.we-online.com/components/products/datasheet/691412120004B; Mount: Through Hole; Operating Temperature Min: -40degC; Operating Temperature Max: 105degC; Packaging: Box; Application: Screwless; Number of Pins: 4; Number of Rows: 1; Orientation: 45deg; Lead Pitch: 3.5mm
footprint 691412120004B
pins: 1, 2, 3, 4

## 691412120004MB
designator J?  (value not drawn)
WR-TBL Series 412MB 45° Entry, THT, pitch 3.5mm, 04p; Manufacturer: Wurth Elektronik; Modularity: No; Rated Current: 6A; Wire Section: 14 to 20 (AWG) 2.08 to 0.518 (mm^2); Working Voltage: 300V (AC); Manufacturer Part Number: 691412120004MB; Product Series: WR-TBL; ComponentLink1Description: Website Link; ComponentLink1URL: https://www.we-online.com; ComponentLink2Description: Datasheet Link; ComponentLink2URL: https://www.we-online.com/components/products/datasheet/691412120004MB; Mount: Through Hole; Operating Temperature Min: -40degC; Operating Temperature Max: 105degC; Packaging: Box; Application: Screwless; Number of Pins: 4; Number of Rows: 1; Orientation: 45deg; Lead Pitch: 3.5mm
footprint 691412120004MB
pins: 1, 2, 3, 4

## 691412120005B
designator J?  (value not drawn)
WR-TBL Series 412B 45° Entry, THT, pitch 3.5mm, 05p; Manufacturer: Wurth Elektronik; Modularity: No; Rated Current: 6A; Wire Section: 14 to 20 (AWG) 2.08 to 0.518 (mm^2); Working Voltage: 300V (AC); Manufacturer Part Number: 691412120005B; Product Series: WR-TBL; ComponentLink1Description: Website Link; ComponentLink1URL: https://www.we-online.com; ComponentLink2Description: Datasheet Link; ComponentLink2URL: https://www.we-online.com/components/products/datasheet/691412120005B; Mount: Through Hole; Operating Temperature Min: -40degC; Operating Temperature Max: 105degC; Packaging: Box; Application: Screwless; Number of Pins: 5; Number of Rows: 1; Orientation: 45deg; Lead Pitch: 3.5mm
footprint 691412120005B
pins: 1, 2, 3, 4, 5

## 691412120005MB
designator J?  (value not drawn)
WR-TBL Series 412MB 45° Entry, THT, pitch 3.5mm, 05p; Manufacturer: Wurth Elektronik; Modularity: No; Rated Current: 6A; Wire Section: 14 to 20 (AWG) 2.08 to 0.518 (mm^2); Working Voltage: 300V (AC); Manufacturer Part Number: 691412120005MB; Product Series: WR-TBL; ComponentLink1Description: Website Link; ComponentLink1URL: https://www.we-online.com; ComponentLink2Description: Datasheet Link; ComponentLink2URL: https://www.we-online.com/components/products/datasheet/691412120005MB; Mount: Through Hole; Operating Temperature Min: -40degC; Operating Temperature Max: 105degC; Packaging: Box; Application: Screwless; Number of Pins: 5; Number of Rows: 1; Orientation: 45deg; Lead Pitch: 3.5mm
footprint 691412120005MB
pins: 1, 2, 3, 4, 5

## 691412120006B
designator J?  (value not drawn)
WR-TBL Series 412B 45° Entry, THT, pitch 3.5mm, 06p; Manufacturer: Wurth Elektronik; Modularity: No; Rated Current: 6A; Wire Section: 14 to 20 (AWG) 2.08 to 0.518 (mm^2); Working Voltage: 300V (AC); Manufacturer Part Number: 691412120006B; Product Series: WR-TBL; ComponentLink1Description: Website Link; ComponentLink1URL: https://www.we-online.com; ComponentLink2Description: Datasheet Link; ComponentLink2URL: https://www.we-online.com/components/products/datasheet/691412120006B; Mount: Through Hole; Operating Temperature Min: -40degC; Operating Temperature Max: 105degC; Packaging: Box; Application: Screwless; Number of Pins: 6; Number of Rows: 1; Orientation: 45deg; Lead Pitch: 3.5mm
footprint 691412120006B
pins: 1, 2, 3, 4, 5, 6

## 691412120006MB
designator J?  (value not drawn)
WR-TBL Series 412MB 45° Entry, THT, pitch 3.5mm, 06p; Manufacturer: Wurth Elektronik; Modularity: No; Rated Current: 6A; Wire Section: 14 to 20 (AWG) 2.08 to 0.518 (mm^2); Working Voltage: 300V (AC); Manufacturer Part Number: 691412120006MB; Product Series: WR-TBL; ComponentLink1Description: Website Link; ComponentLink1URL: https://www.we-online.com; ComponentLink2Description: Datasheet Link; ComponentLink2URL: https://www.we-online.com/components/products/datasheet/691412120006MB; Mount: Through Hole; Operating Temperature Min: -40degC; Operating Temperature Max: 105degC; Packaging: Box; Application: Screwless; Number of Pins: 6; Number of Rows: 1; Orientation: 45deg; Lead Pitch: 3.5mm
footprint 691412120006MB
pins: 1, 2, 3, 4, 5, 6

## 691412120007B
designator J?  (value not drawn)
WR-TBL Series 412B 45° Entry, THT, pitch 3.5mm, 07p; Manufacturer: Wurth Elektronik; Modularity: No; Rated Current: 6A; Wire Section: 14 to 20 (AWG) 2.08 to 0.518 (mm^2); Working Voltage: 300V (AC); Manufacturer Part Number: 691412120007B; Product Series: WR-TBL; ComponentLink1Description: Website Link; ComponentLink1URL: https://www.we-online.com; ComponentLink2Description: Datasheet Link; ComponentLink2URL: https://www.we-online.com/components/products/datasheet/691412120007B; Mount: Through Hole; Operating Temperature Min: -40degC; Operating Temperature Max: 105degC; Packaging: Box; Application: Screwless; Number of Pins: 7; Number of Rows: 1; Orientation: 45deg; Lead Pitch: 3.5mm
footprint 691412120007B
pins: 1, 2, 3, 4, 5, 6, 7

## 691412120007MB
designator J?  (value not drawn)
WR-TBL Series 412MB 45° Entry, THT, pitch 3.5mm, 07p; Manufacturer: Wurth Elektronik; Modularity: No; Rated Current: 6A; Wire Section: 14 to 20 (AWG) 2.08 to 0.518 (mm^2); Working Voltage: 300V (AC); Manufacturer Part Number: 691412120007MB; Product Series: WR-TBL; ComponentLink1Description: Website Link; ComponentLink1URL: https://www.we-online.com; ComponentLink2Description: Datasheet Link; ComponentLink2URL: https://www.we-online.com/components/products/datasheet/691412120007MB; Mount: Through Hole; Operating Temperature Min: -40degC; Operating Temperature Max: 105degC; Packaging: Box; Application: Screwless; Number of Pins: 7; Number of Rows: 1; Orientation: 45deg; Lead Pitch: 3.5mm
footprint 691412120007MB
pins: 1, 2, 3, 4, 5, 6, 7